# Altium schematic symbol library RC0603FR-07100RL.SchLib: 1 symbol
Pins are listed as number, name and electrical type; pins without a type are passive.

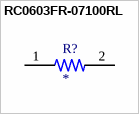
[diagram p0: symbol RC0603FR-07100RL]

## RC0603FR-07100RL
designator R?
RES SMT 100R 1% 0603 T/R PICK#92931; MP: RC0603FR-07100RL; Package: None; Availability: Unavailable; Price: None; Value: *
pins: 1, 2